# Altium schematic symbol library MS IMP Library.SchLib: 375 symbols (part 4 of 9)
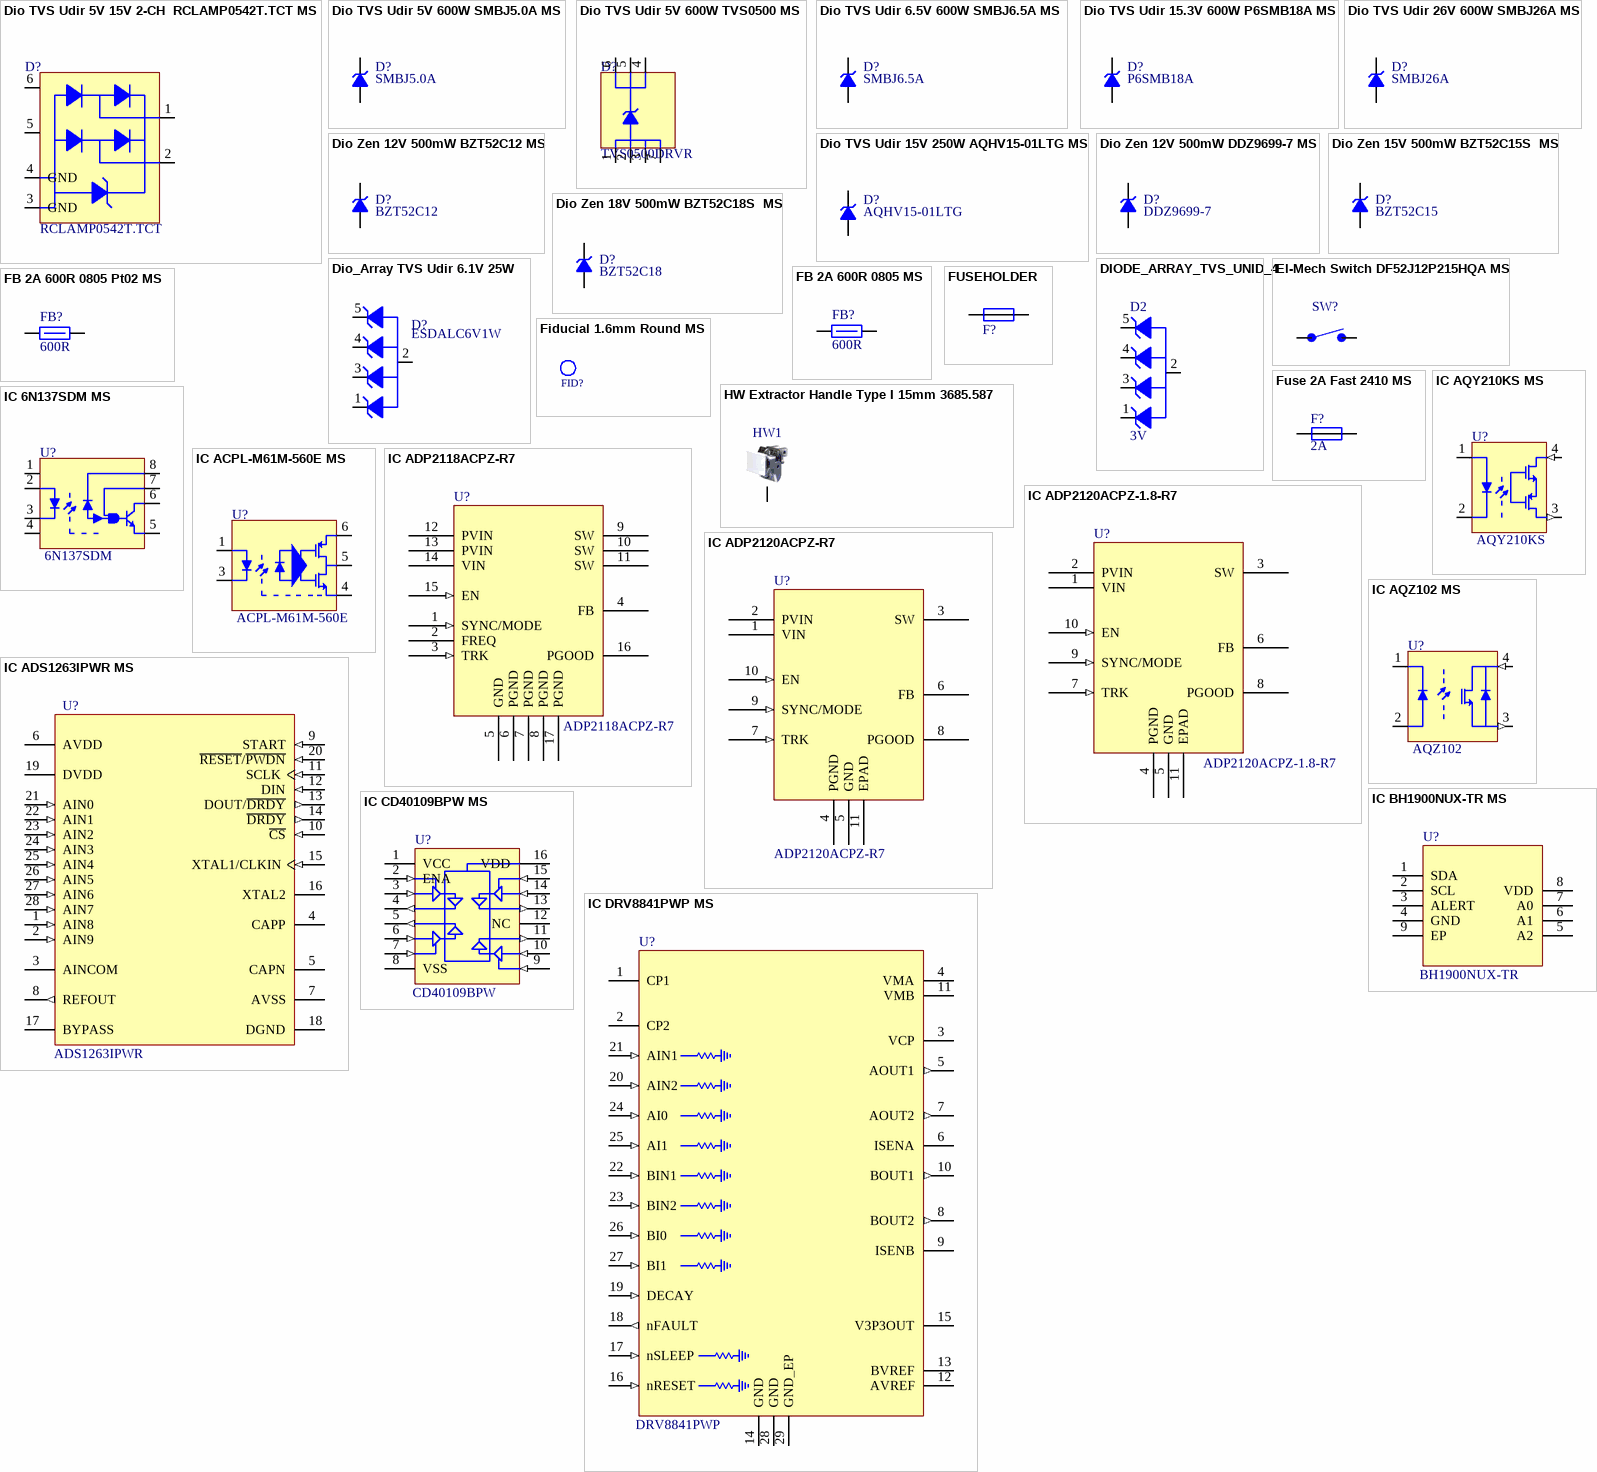
[diagram p25: symbols Dio TVS Udir 5V 15V 2-CH  RCLAMP0542T.TCT MS to IC DRV8841PWP MS]

## FB 2A 600R 0805 MS
designator FB?, comment Impedance @ 100MHz: 600R  (hidden comment: Ferrite Bead)
Ferrite Bead 2A 600R@100MHz 0805; Manufacturer: TDK Corporation; Manufacturer Part Number: MPZ2012S601AT000; DC Resistance: 0R1; Max Impedance Frequency: 110MHz; Tolerance: ±25%; Production status: Active; Distributor: Digi-Key; Distributor Part Number: 445-2206-1-ND; Last Revision Date: 01.10.2020.; Temperature Range: -55°C ~ +125°C; Mounting: SMD; ComponentLink1Description: Datasheet; ComponentLink1URL: https://product.tdk.com/en/system/files?file=dam/doc/product/emc/emc/beads/catalog/beads_commercial_power_mpz2012_en.pdf; ComponentLink2Description: Distributor; ComponentLink2URL: https://www.digikey.com/en/products/detail/tdk-corporation/MPZ2012S601AT000/765065?s=N4IgTCBcDaICxwKwFoxgAwDZkEZkDkARAAhAF0BfIA; ComponentLink3Description: Manufacturer; ComponentLink3URL: https://product.tdk.com/en/search/emc/emc/beads/info?part_no=MPZ2012S601AT000; Status: Not Checked; Rated Current: 2A; DB Parameter 1: 2A; DB Parameter 2: 600R; DB Parameter 3: 0R1
footprint 0805 FB 0.85mm MS (Resistor 0805 0.5mm)
pins: 1, 2

## FB 2A 600R 0805 Pt02 MS
designator FB?, comment Impedance @ 100MHz: 600R  (hidden comment: Ferrite Bead)
Ferrite Bead 2A 600R@100MHz 0805; Manufacturer: Murata Electronics; Manufacturer Part Number: BLM21SP601SH1D; Rated Current: 2.3A; DC Resistance: 0.06R; Max Impedance Frequency: 110MHz; Tolerance: ±25%; Production status: Active; Distributor: Digi-Key; Distributor Part Number: 490-18588-1-ND; Last Revision Date: 26.07.2021; Temperature Range: -55°C ~ +125°C; Mounting: SMD; ComponentLink1Description: Datasheet; ComponentLink1URL: https://www.murata.com/en-us/api/pdfdownloadapi?cate=luNoiseSupprFilteChipFerriBead&partno=BLM21SP601SH1%23; ComponentLink2Description: Distributor; ComponentLink2URL: https://www.digikey.com/en/products/detail/murata-electronics/BLM21SP601SH1D/10135379; ComponentLink3Description: Manufacturer; ComponentLink3URL: https://www.murata.com/en-us/products/productdetail?partno=BLM21SP601SH1%23; Status: Not Checked; DB Parameter 1: 2A; DB Parameter 2: 600R; DB Parameter 3: 0.06R
footprint 0805 FB 0.85mm MS (Resistor 0805 0.5mm)
pins: 1, 2

## Fiducial 1.6mm Round MS
designator FID?, comment Fiducial Mark Round 1.6mm  (value not drawn)  (no BOM)
Mounting: N/A; Package: N/A; Last Revision Date: 27.11.2020.
footprint FIDUCIAL_3.2_1.6

## Fuse 2A Fast 2410 MS
designator F?, comment Rated Current: 2A  (hidden comment: Fuse)
Fuse 2A Fast 2410; Manufacturer: Bel Fuse; Manufacturer Part Number: 0679H2000-05; DB Parameter 2: 72V; DB Parameter 3: 350V; Production Status: Active; Rated Voltage DC: 72VDC; Distributor: Mouser; Distributor Part Number: 530-0679H2000-05; Last Revision Date: 09.03.2022; Temperature Range: -55°C ~ +125°C; Mounting: SMD; ComponentLink1Description: Datasheet; ComponentLink1URL: https://eu.mouser.com/datasheet/2/643/ds-CP-0679h-series-1290853.pdf; ComponentLink2Description: Distributor; ComponentLink2URL: https://eu.mouser.com/ProductDetail/Bel-Fuse/0679H2000-05?qs=sGAEpiMZZMvShe%252BZiYheioeZGk4hIqz%2FpIM31NOOqC4%3D; ComponentLink3Description: Manufacturer; ComponentLink3URL: https://belfuse.com/product/part-details?partn=0679H2000-05; Status: Not Checked; Type: Fast; DB Parameter 1: 2A; Rated Voltage AC: 350V
footprint FUSC6125X279N
pins: 1, 2

## FUSEHOLDER
designator F?  (value not drawn)
FUSEHOLDER 10A 500V; Manufacturer: Schurter Inc.; Manufacturer Part Number: 0031.8221; VFB: 0.6V; Production Status: Active; Distributor: Digi-Key; Distributor Part Number: 486-1260-ND; Last Revision Date: 04.02.2021; Mounting: SMD; ComponentLink1Description: Datasheet; ComponentLink1URL: https://us.schurter.com/bundles/snceschurter/epim/_ProdPool_/newDS/en/typ_OGN-SMD.pdf; ComponentLink2Description: Distributor; ComponentLink2URL: https://www.digikey.com/en/products/detail/schurter-inc/0031-8221/669927; ComponentLink3Description: Manufacturer; ComponentLink3URL: https://www.schurter.com/en/datasheet/OGN-SMD#; Status: Not Checked; Rated Voltage: 500V; Rated Current: 10A; DB Parameter 1: 10A; DB Parameter 2: 500V
footprint FUSEHOLDER_00318221
pins: 1, 2

## HW Extractor Handle Type I 15mm 3685.587
designator HW1, comment Extractor Handle  (value not drawn)
HW Extractor Handle Type I 15mm 3685.587; Manufacturer: Wakefield-Vette; Distributor: Digi-Key; Distributor Part Number: 345-1342-ND; Manufacturer Part Number: 3685.587; Last Revision Date: 18.10.2020.; Temperature Range: N/A; Mounting: N/A; ComponentLink1Description: Datasheet; ComponentLink1URL: http://www.wakefield-vette.com/Portals/0/EPS%20data%20sheets/Components/Front%20Panels/extractor%20handle%20type%20I%20and%20II.pdf; ComponentLink2Description: Distributor; ComponentLink2URL: https://www.digikey.com/en/products/detail/wakefield-vette/3685587/5432427?s=N4IgTCBcDaIMwDYAcBWAdCpB2EBdAvkA; ComponentLink3Description: Manufacturer; ComponentLink3URL: http://www.wakefield-vette.com/products/electronic-packaging-systems/eps-components-accessories/front-panels-handles/extractors-ejectors-micro-switches/extractor-handle-type-i-and-type-ii.aspx; Status: Checked
footprint Extractor Handle 3685.587 - Lower MS (Extractor Handle 3685.587 - Lower)
footprint Extractor Handle 3685.587 - Upper MS (Extractor Handle 3685.587 - Upper)
pins: 0

## IC 6N137SDM MS
designator U?, comment 6N137SDM
OPTOISO 5KV 1CH OPEN COLL 8SMD; Manufacturer: ON Semiconductor; Data Rate: 10 Mbps; Isolation Voltage: 5000 Vrms; Production Status: Active; Distributor: 6N137SDMCT-ND; Distributor Part Number: 6N137SDM; Manufacturer Part Number: 6N137SDM; Last Revision Date: 02.07.2021; Temperature Range: -40°C ~ +100°C; Mounting: SMD; ComponentLink1Description: Datasheet; ComponentLink1URL: https://rocelec.widen.net/view/pdf/zs07d29frw/ONSM-S-A0003591003-1.pdf?t.download=true&u=5oefqw; ComponentLink2Description: Distributor; ComponentLink2URL: https://www.digikey.com/en/products/detail/on-semiconductor/6N137SDM/2444816; ComponentLink3Description: Manufacturer; ComponentLink3URL: https://www.onsemi.com/products/optoelectronics/high-performance-optocouplers/high-speed-logic-gate-optocouplers/6n137sdm; Status: Not Checked; DB Parameter 1: 6N137SDM; DB Parameter 2: 5000 Vrms; DB Parameter 3: 10 Mbps
footprint SOP254P1030X508-8N
pins: 1 NC, 2 ANODE, 3 CATHODE, 4 NC, 5 GND, 6 VO, 7 VE, 8 VCC

## IC ACPL-M61M-560E MS
designator U?, comment ACPL-M61M-560E
OPTOCOUPLER 10MBd; Manufacturer: Broadcom Limited; Data Rate: 10 Mbps; Isolation Voltage: 5000 Vrms; DB Parameter 2: 3750 Vrms; Production Status: Active; Supply Voltage: 2.5V ~ 3.3V; Distributor: Digi-Key; Distributor Part Number: 516-4288-1-ND; Manufacturer Part Number: ACPL-M61M-560E; Last Revision Date: 02.07.2021; Temperature Range: -40°C ~ +125°C; Mounting: SMD; ComponentLink1Description: Datasheet; ComponentLink1URL: https://docs.broadcom.com/doc/ACPL-M61M-DS; ComponentLink2Description: Distributor; ComponentLink2URL: https://www.digikey.com/en/products/detail/broadcom-limited/ACPL-M61M-560E/9693055?s=N4IgjCBcoCwwHFUBjKAzAhgGwM4FMAaEAeygG0QB2AZgDZqBOEAXSIAcAXKEAZQ4CcAlgDsA5iAC%2BRALQAmJCFSQBAV0IlyIAKwsJUkPMgVinYsmIq2WPP11A; ComponentLink3Description: Manufacturer; ComponentLink3URL: https://www.broadcom.com/products/optocouplers/industrial-plastic/digital-optocouplers/10mbd/acpl-m61m; Status: Not Checked; DB Parameter 1: ACPL-M61M-560E; DB Parameter 3: 10 Mbps
footprint ACPL-M61M SO5 MS
pins: 1 ANODE, 3 CATHODE, 4 GND, 5 VO, 6 VCC

## IC ADP2118ACPZ-R7
designator U?, comment ADP2118ACPZ-R7
IC BUCK SYNCHR 3A 16LFCSP; Manufacturer: Analog Devices Inc.; Input Voltage: 2.7V ~ 5.5V; Output Voltage: ADJ; VFB: 0.6V; Production Status: Active; Distributor: Digi-Key; Distributor Part Number: ADP2118ACPZ-R7CT-ND; Last Revision Date: 20.10.2020.; Temperature Range: -40°C ~ +125°C; Mounting: SMD; ComponentLink1Description: Datasheet; ComponentLink1URL: https://www.analog.com/media/en/technical-documentation/data-sheets/ADP2118.pdf; ComponentLink2Description: Distributor; ComponentLink2URL: https://www.digikey.com/en/products/detail/analog-devices-inc/ADP2118ACPZ-R7/2137520; ComponentLink3Description: Manufacturer; ComponentLink3URL: https://www.analog.com/en/products/adm1186.html; Status: Not Checked; DB Parameter 1: ADP2118ACPZ-R7; DB Parameter 2: 3A; DB Parameter 3: ADJ; Output Current: 3A; Isolation: N/A; Manufacturer Part Number: ADP2118ACPZ-R7
footprint LFCSP-16_4x4 MS
pins: 1 SYNC/MODE (in), 2 FREQ, 3 TRK (in), 4 FB, 5 GND (power), 6 PGND (power), 7 PGND (power), 8 PGND (power), 9 SW, 10 SW, 11 SW, 12 PVIN (power), 13 PVIN (power), 14 VIN (power), 15 EN (in), 16 PGOOD (oe), 17 PGND (power)

## IC ADP2120ACPZ-1.8-R7
designator U?, comment ADP2120ACPZ-1.8-R7
IC REG BUCK 1.8V 1.25A 10LFCSP; Manufacturer: Analog Devices Inc.; Input Voltage: 2.3V ~ 5.5V; VFB: 0.6V; Production Status: Active; Distributor: Digi-Key; Distributor Part Number: ADP2120ACPZ-1.8-R7CT-ND; Last Revision Date: 20.10.2020.; Temperature Range: -40°C ~ +125°C; Mounting: SMD; ComponentLink1Description: Datasheet; ComponentLink1URL: https://www.analog.com/media/en/technical-documentation/data-sheets/ADP2119_2120.pdf; ComponentLink2Description: Distributor; ComponentLink2URL: https://www.digikey.com/en/products/detail/ADP2120ACPZ-1.8-R7/ADP2120ACPZ-1.8-R7CT-ND/2436544; ComponentLink3Description: Manufacturer; ComponentLink3URL: https://www.analog.com/en/products/adp2120.html; Status: Not Checked; Output Voltage: 1.8V; DB Parameter 1: ADP2120ACPZ-1.8-R7; DB Parameter 2: 1.8V; DB Parameter 3: 1.25A; Output Current: 1.25A; Isolation: N/A; Manufacturer Part Number: ADP2120ACPZ-1.8-R7
footprint LFCSP-10_3x3 MS
pins: 1 VIN (power), 2 PVIN (power), 3 SW, 4 PGND (power), 5 GND (power), 6 FB, 7 TRK (in), 8 PGOOD (oe), 9 SYNC/MODE (in), 10 EN (in), 11 EPAD (power)

## IC ADP2120ACPZ-R7
designator U?, comment ADP2120ACPZ-R7
IC REG BUCK ADJ 1.25A 10LFCSP; Manufacturer: Analog Devices Inc.; Input Voltage: 2.3V ~ 5.5V; VFB: 0.6V; Production Status: Active; Distributor: Digi-Key; Distributor Part Number: ADP2120ACPZ-R7CT-ND; Last Revision Date: 28.10.2020; Temperature Range: -40°C ~ +125°C; Mounting: SMD; ComponentLink1Description: Datasheet; ComponentLink1URL: https://www.analog.com/media/en/technical-documentation/data-sheets/ADP2119_2120.pdf; ComponentLink2Description: Distributor; ComponentLink2URL: https://www.digikey.com/en/products/detail/analog-devices-inc/ADP2120ACPZ-R7/2606528; ComponentLink3Description: Manufacturer; ComponentLink3URL: https://www.analog.com/en/products/adp2120.html; Status: Not Checked; Output Voltage: ADJ; DB Parameter 1: ADP2120ACPZ-R7; DB Parameter 2: 1.25A; DB Parameter 3: ADJ; Output Current: 1.25A; Isolation: N/A; Manufacturer Part Number: ADP2120ACPZ-R7
footprint LFCSP-10_3x3 MS
pins: 1 VIN (power), 2 PVIN (power), 3 SW, 4 PGND (power), 5 GND (power), 6 FB, 7 TRK (in), 8 PGOOD (oe), 9 SYNC/MODE (in), 10 EN (in), 11 EPAD (power)

## IC ADS1263IPWR MS
designator U?, comment ADS1263IPWR
IC ADC 32BIT SIGMA-DELTA 28TSSOP; Manufacturer: Texas Instruments; Power Supply: 2.7V ~ 5.25V; Sampling Rate: 38 kHz; DB Parameter 2: 128Mb; DB Parameter 3: 133 MHz; Production Status: Active; No. of Channels: 10; Distributor: Digi-Key; Distributor Part Number: 296-42485-1-ND; Last Revision Date: 26.06.2022; Temperature Range: -40°C ~ +125°C; Mounting: SMD; ComponentLink1Description: Datasheet; ComponentLink1URL: https://www.ti.com/lit/ds/symlink/ads1263.pdf?HQS=dis-dk-null-digikeymode-dsf-pf-null-wwe&ts=1624720878208&ref_url=https%253A%252F%252Fwww.ti.com%252Fgeneral%252Fdocs%252Fsuppproductinfo.tsp%253FdistId%253D10%2526gotoUrl%253Dhttps%253A%252F%252Fwww.ti.com%252Flit%252Fgpn%252Fads1263; ComponentLink2Description: Distributor; ComponentLink2URL: https://www.digikey.com/en/products/detail/texas-instruments/ADS1263IPWR/5356687; ComponentLink3Description: Manufacturer; ComponentLink3URL: https://www.ti.com/store/ti/en/p/product/?p=ADS1263IPWR; Status: Not Checked; DB Parameter 1: ADS1263IPWR; Manufacturer Part Number: ADS1263IPWR
footprint SOP65P640X120-28N MS
pins: 1 AIN8 (in), 2 AIN9 (in), 3 AINCOM, 4 CAPP, 5 CAPN, 6 AVDD (power), 7 AVSS (power), 8 REFOUT (out), 9 START (in), 10 ~{CS} (in), 11 SCLK (in), 12 DIN (in), 13 DOUT/~{DRDY} (out), 14 ~{DRDY} (out), 15 XTAL1/CLKIN (in), 16 XTAL2, 17 BYPASS, 18 DGND (power), 19 DVDD (power), 20 ~{RESET}/~{PWDN} (in), 21 AIN0 (in), 22 AIN1 (in), 23 AIN2 (in), 24 AIN3 (in), 25 AIN4 (in), 26 AIN5 (in), 27 AIN6 (in), 28 AIN7 (in)

## IC AQY210KS MS
designator U?, comment AQY210KS
SSR RELAY SPST-NO 120MA 0-350V; Manufacturer: Panasonic Electric Works; Continuos Load Current: 0.12A; Isolation Voltage: 1500 Vrms; Production Status: Active; Supply Voltage: 0V ~ 350V; On-State Resistance: 35R; Distributor: Digi-Key; Distributor Part Number: 255-1432-5-ND; Manufacturer Part Number: AQY210KS; Last Revision Date: 07.07.2021; Temperature Range: -40°C ~ +125°C; Mounting: SMD; ComponentLink1Description: Datasheet; ComponentLink1URL: https://www3.panasonic.biz/ac/e_download/control/relay/photomos/catalog/semi_eng_gu1a_aqy21_ks.pdf; ComponentLink2Description: Distributor; ComponentLink2URL: https://www.digikey.com/en/products/detail/panasonic-electric-works/AQY210KS/513084; ComponentLink3Description: Manufacturer; ComponentLink3URL: https://www3.panasonic.biz/ac/e_download/control/relay/photomos/catalog/semi_eng_gu1a_aqy21_ks.pdf; Status: Not Checked; DB Parameter 1: AQY210KS; DB Parameter 2: 1500 Vrms; DB Parameter 3: 0.12A
footprint SOP-4
pins: 1 ANODE, 2 CATHODE, 3 Out (out), 4 In (in)

## IC AQZ102 MS
designator U?, comment AQZ102
SSR RELAY 4A 60V 4PIN SPST; Manufacturer: Panasonic Industrial Devices; Isolation Voltage: 2500 V; Production Status: Active; Supply Voltage: 0V ~ 60V; On-State Resistance: 0R09; Distributor: Mouser; Distributor Part Number: 769-AQZ102; Manufacturer Part Number: AQZ102; Last Revision Date: 07.03.2022; Temperature Range: -40°C ~ +85°C; Mounting: SMD; ComponentLink1Description: Datasheet; ComponentLink1URL: https://eu.mouser.com/datasheet/2/315/Panasonic_080420_AQZ-1889739.pdf; ComponentLink2Description: Distributor; ComponentLink2URL: https://eu.mouser.com/ProductDetail/Panasonic-Industrial-Devices/AQZ102?qs=tR16lFwwUU%2FVYpsj8M3w%252BA%3D%3D; ComponentLink3Description: Manufacturer; ComponentLink3URL: https://industry.panasonic.eu/components/relays/relays/photomos-relays/photomos-power-1-form/aqz102-aqz102; Status: Not Checked; Continuos Load Current: 4A; DB Parameter 1: AQZ102; DB Parameter 2: 2500 V; DB Parameter 3: 4A
footprint AQZ102 MS
pins: 1 ANODE, 2 CATHODE, 3 Out (out), 4 In (in)

## IC BH1900NUX-TR MS
designator U?, comment BH1900NUX-TR
SENSOR DGTL -20C-85C 8VSON; Manufacturer: ROHM Semiconductor; Power Supply: 2.7V ~ 3.6V; Production Status: Active; Distributor: Mouser; Distributor Part Number: 755-BH1900NUX; Last Revision Date: 13.12.2021; Temperature Range: -30°C ~ +95°C; Mounting: SMD; ComponentLink1Description: Datasheet; ComponentLink1URL: https://eu.mouser.com/datasheet/2/348/bh1900nux_e-1874465.pdf; ComponentLink2Description: Distributor; ComponentLink2URL: https://eu.mouser.com/ProductDetail/ROHM-Semiconductor/BH1900NUX-TR?qs=HXFqYaX1Q2wlYjOjhnBtEw%3D%3D; ComponentLink3Description: Manufacturer; ComponentLink3URL: https://www.rohm.com/site-search/-/rohmsearch/scope/site?searchKeyword=BH1900NUX-TR; Status: Not Checked; DB Parameter 1: BH1900NUX-TR; Manufacturer Part Number: BH1900NUX-TR
footprint SON50P300X200X60-9N-D ms
pins: 1 SDA, 2 SCL, 3 ALERT, 4 GND, 5 A2, 6 A1, 7 A0, 8 VDD, 9 EP

## IC CD40109BPW MS
designator U?, comment CD40109BPW
IC TRNSLTR UNIDIR 16TSSOP; Manufacturer: Texas Instruments; Power Supply: 3-18V/3-18V; DB Parameter 2: 3-18V; Production Status: Active; Distributor: Mouser; Distributor Part Number: 595-CD40109BPW; Last Revision Date: 03.12.2021; Temperature Range: -55°C ~ +125°C; Mounting: SMD; ComponentLink1Description: Datasheet; ComponentLink1URL: https://www.ti.com/lit/ds/symlink/cd40109b.pdf?HQS=dis-mous-null-mousermode-dsf-pf-null-wwe&ts=1638446916504&ref_url=https%253A%252F%252Fwww.mouser.fr%252F; ComponentLink2Description: Distributor; ComponentLink2URL: https://eu.mouser.com/ProductDetail/Texas-Instruments/CD40109BPW?qs=vmM6vcLFxxEiZzT4OByrSQ%3D%3D; ComponentLink3Description: Manufacturer; ComponentLink3URL: https://www.ti.com/store/ti/en/p/product/?p=CD40109BPW; Status: Not Checked; DB Parameter 1: CD40109BPW; DB Parameter 3: 3-18V; Manufacturer Part Number: CD40109BPW
footprint SOP65P640X120-16N_PW016A MS
pins: 1 VCC (power), 2 ENA (in), 3 A (in), 4 E (out), 5 F (out), 6 B (in), 7 ENB (in), 8 VSS (power), 9 ENC (in), 10 C (in), 11 G (out), 12 NC, 13 H (out), 14 D (in), 15 END (in), 16 VDD (power)

## IC DRV8841PWP MS
designator U?, comment DRV8841PWP
IC MTR DRVR BIPLR 8.2-45V 28SSOP; Manufacturer: Texas Instruments; Current - Max: 1.75A; Production Status: Active; Distributor: Digi-Key; Distributor Part Number: 296-47909-ND; Last Revision Date: 14.09.2021; Temperature Range: -40°C ~ +150°C; Mounting: SMD; ComponentLink1Description: Datasheet; ComponentLink1URL: https://www.ti.com/lit/ds/symlink/drv8841.pdf?HQS=dis-dk-null-digikeymode-dsf-pf-null-wwe&ts=1631537482068; ComponentLink2Description: Distributor; ComponentLink2URL: https://www.digikey.com/en/products/detail/texas-instruments/DRV8841PWP/13450819; ComponentLink3Description: Manufacturer; ComponentLink3URL: https://www.ti.com/store/ti/en/p/product/?p=DRV8841PWP; Status: Not Checked; Voltage - Load: 8.2-45V; DB Parameter 1: DRV8841PWP; DB Parameter 2: 8.2-45V; DB Parameter 3: 1.75A; Manufacturer Part Number: DRV8841PWP
footprint SOP65P640X120-29N MS
pins: 1 CP1, 2 CP2, 3 VCP, 4 VMA (power), 5 AOUT1 (out), 6 ISENA, 7 AOUT2 (out), 8 BOUT2 (out), 9 ISENB, 10 BOUT1 (out), 11 VMB (power), 12 AVREF, 13 BVREF, 14 GND (power), 15 V3P3OUT (power), 16 nRESET (in), 17 nSLEEP (in), 18 nFAULT (out), 19 DECAY (in), 20 AIN2 (in), 21 AIN1 (in), 22 BIN1 (in), 23 BIN2 (in), 24 AI0 (in), 25 AI1 (in), 26 BI0 (in), 27 BI1 (in), 28 GND (power), 29 GND_EP (power)

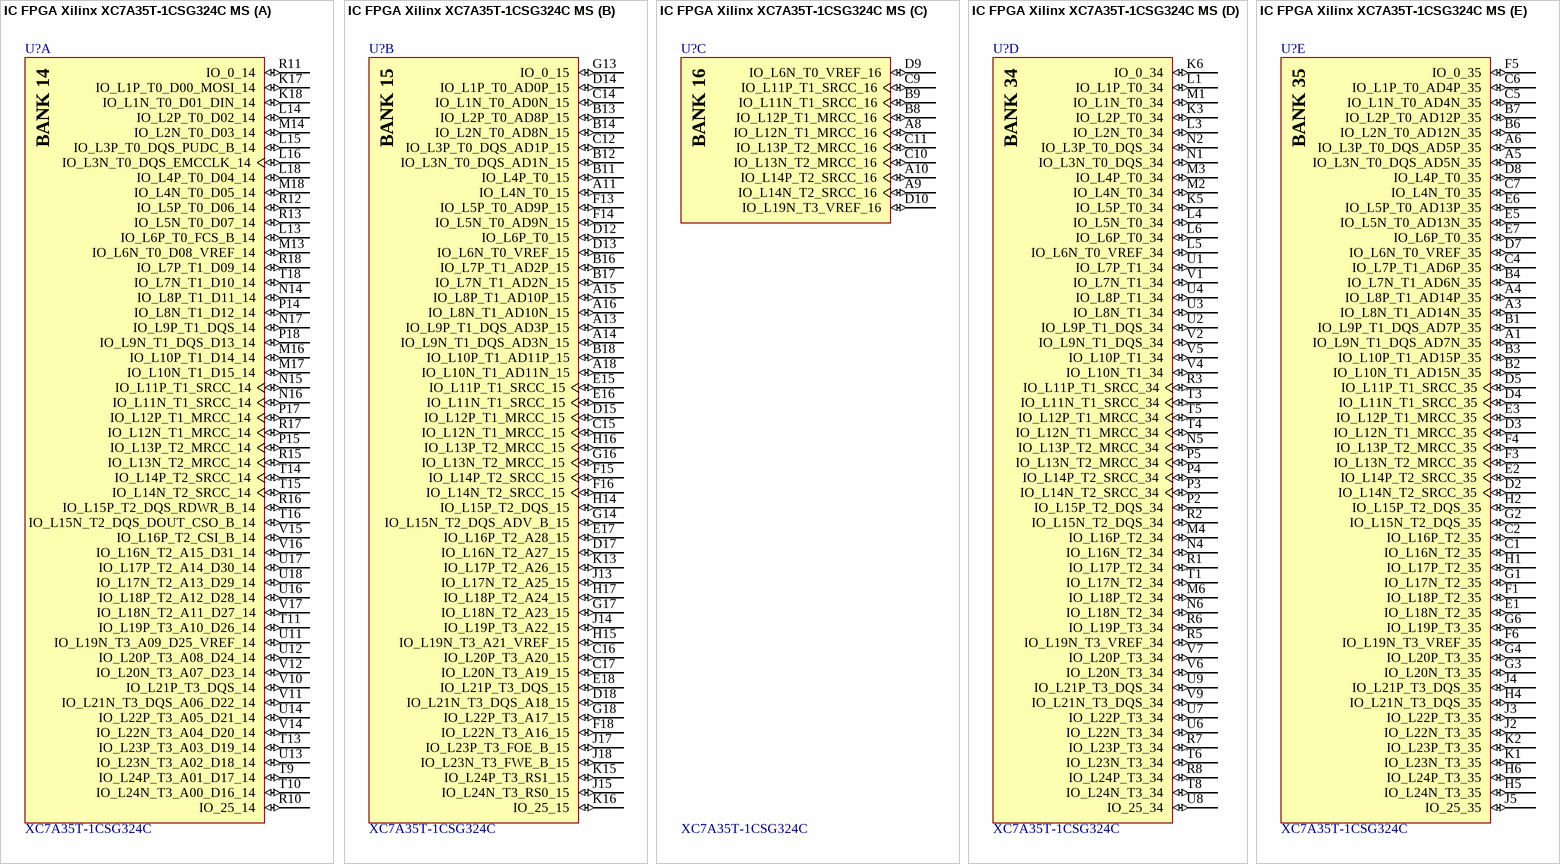
[diagram p7: symbol IC FPGA Xilinx XC7A35T-1CSG324C MS]

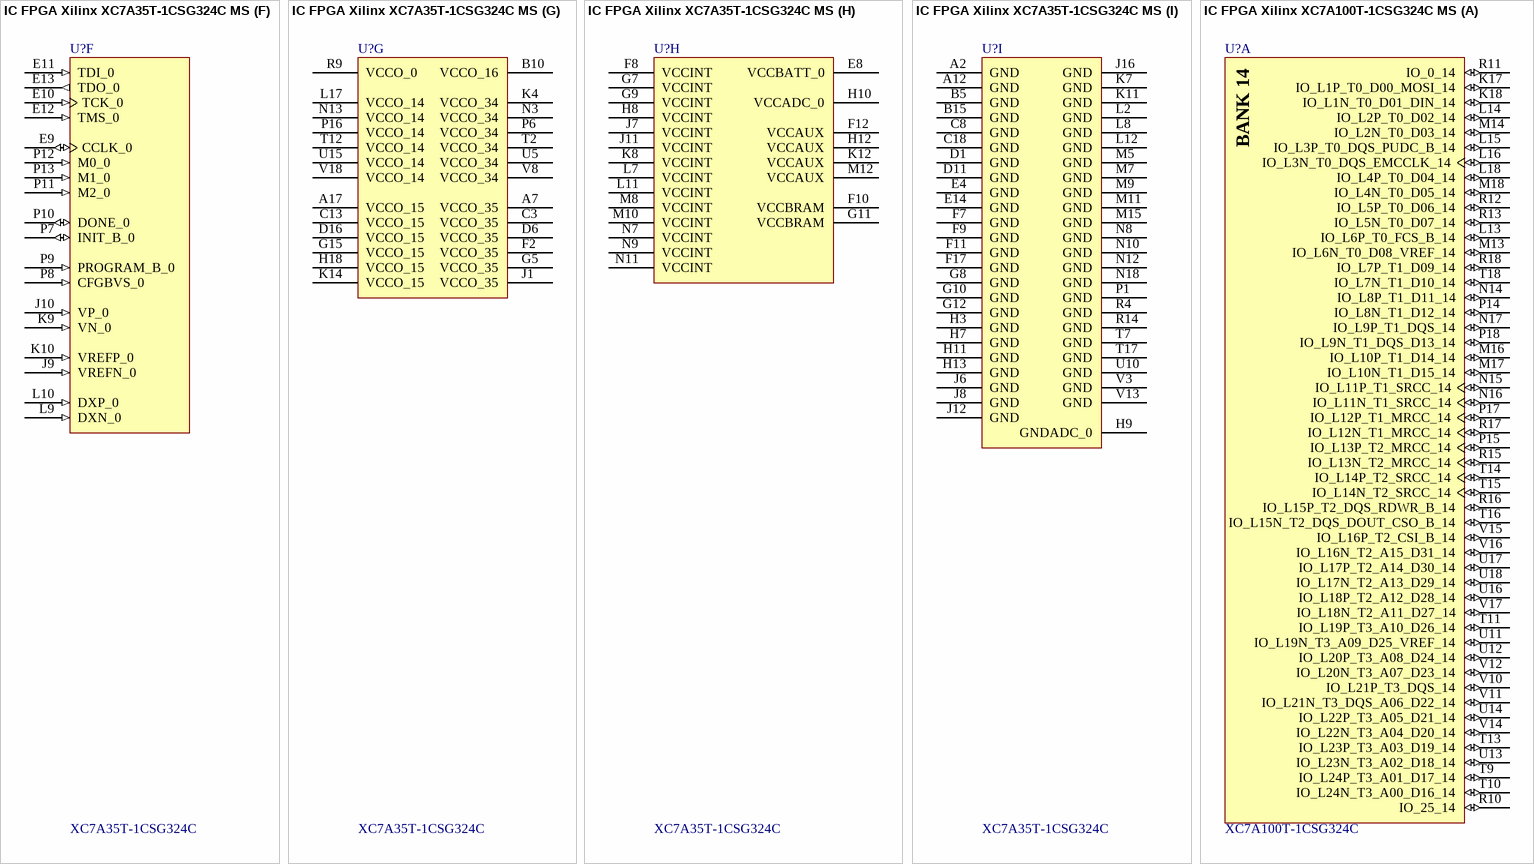
[diagram p8: symbols IC FPGA Xilinx XC7A35T-1CSG324C MS to IC FPGA Xilinx XC7A100T-1CSG324C MS]

## IC FPGA Xilinx XC7A35T-1CSG324C MS
designator U?, comment XC7A35T-1CSG324C
IC FPGA 210 I/O 324CSBGA; Manufacturer: Xilinx; Supply Voltage: 0.95V ~ 1.05V; Number of CLBs: 33280; Number of IO: 210; Production Status: Active; Distributor: Digi-Key; Distributor Part Number: 122-2079-ND; Manufacturer Part Number: XC7A35T-1CSG324C; Last Revision Date: 02.11.2020.; Temperature Range: 0°C ~ 85°C; Mounting: SMD; Status: Not Checked; DB Parameter 1: XC7A35T-1CSG324C; ComponentLink1Description: Datasheet; ComponentLink1URL: https://www.xilinx.com/support/documentation/data_sheets/ds180_7Series_Overview.pdf; ComponentLink2Description: Distributor; ComponentLink2URL: https://www.digikey.com/en/products/detail/xilinx-inc/XC7A35T-1CSG324C/5039490; ComponentLink3Description: Manufacturer; ComponentLink3URL: https://www.digikey.com/en/products/detail/xilinx-inc/XC7A35T-1CSG324C/5039490
footprint XILINX CSG324 0.4mm MS (BGA, 324-Balls, Body 15x15mm, Pitch 0.8mm)
part A pins: K17 IO_L1P_T0_D00_MOSI_14 (io), K18 IO_L1N_T0_D01_DIN_14 (io), L13 IO_L6P_T0_FCS_B_14 (io), L14 IO_L2P_T0_D02_14 (io), L15 IO_L3P_T0_DQS_PUDC_B_14 (io), L16 IO_L3N_T0_DQS_EMCCLK_14 (io), L18 IO_L4P_T0_D04_14 (io), M13 IO_L6N_T0_D08_VREF_14 (io), M14 IO_L2N_T0_D03_14 (io), M16 IO_L10P_T1_D14_14 (io), M17 IO_L10N_T1_D15_14 (io), M18 IO_L4N_T0_D05_14 (io), N14 IO_L8P_T1_D11_14 (io), N15 IO_L11P_T1_SRCC_14 (io), N16 IO_L11N_T1_SRCC_14 (io), N17 IO_L9P_T1_DQS_14 (io), P14 IO_L8N_T1_D12_14 (io), P15 IO_L13P_T2_MRCC_14 (io), P17 IO_L12P_T1_MRCC_14 (io), P18 IO_L9N_T1_DQS_D13_14 (io), R10 IO_25_14 (io), R11 IO_0_14 (io), R12 IO_L5P_T0_D06_14 (io), R13 IO_L5N_T0_D07_14 (io), R15 IO_L13N_T2_MRCC_14 (io), R16 IO_L15P_T2_DQS_RDWR_B_14 (io), R17 IO_L12N_T1_MRCC_14 (io), R18 IO_L7P_T1_D09_14 (io), T9 IO_L24P_T3_A01_D17_14 (io), T10 IO_L24N_T3_A00_D16_14 (io), T11 IO_L19P_T3_A10_D26_14 (io), T13 IO_L23P_T3_A03_D19_14 (io), T14 IO_L14P_T2_SRCC_14 (io), T15 IO_L14N_T2_SRCC_14 (io), T16 IO_L15N_T2_DQS_DOUT_CSO_B_14 (io), T18 IO_L7N_T1_D10_14 (io), U11 IO_L19N_T3_A09_D25_VREF_14 (io), U12 IO_L20P_T3_A08_D24_14 (io), U13 IO_L23N_T3_A02_D18_14 (io), U14 IO_L22P_T3_A05_D21_14 (io), U16 IO_L18P_T2_A12_D28_14 (io), U17 IO_L17P_T2_A14_D30_14 (io), U18 IO_L17N_T2_A13_D29_14 (io), V10 IO_L21P_T3_DQS_14 (io), V11 IO_L21N_T3_DQS_A06_D22_14 (io), V12 IO_L20N_T3_A07_D23_14 (io), V14 IO_L22N_T3_A04_D20_14 (io), V15 IO_L16P_T2_CSI_B_14 (io), V16 IO_L16N_T2_A15_D31_14 (io), V17 IO_L18N_T2_A11_D27_14 (io)
part B pins: A11 IO_L4N_T0_15 (io), A13 IO_L9P_T1_DQS_AD3P_15 (io), A14 IO_L9N_T1_DQS_AD3N_15 (io), A15 IO_L8P_T1_AD10P_15 (io), A16 IO_L8N_T1_AD10N_15 (io), A18 IO_L10N_T1_AD11N_15 (io), B11 IO_L4P_T0_15 (io), B12 IO_L3N_T0_DQS_AD1N_15 (io), B13 IO_L2P_T0_AD8P_15 (io), B14 IO_L2N_T0_AD8N_15 (io), B16 IO_L7P_T1_AD2P_15 (io), B17 IO_L7N_T1_AD2N_15 (io), B18 IO_L10P_T1_AD11P_15 (io), C12 IO_L3P_T0_DQS_AD1P_15 (io), C14 IO_L1N_T0_AD0N_15 (io), C15 IO_L12N_T1_MRCC_15 (io), C16 IO_L20P_T3_A20_15 (io), C17 IO_L20N_T3_A19_15 (io), D12 IO_L6P_T0_15 (io), D13 IO_L6N_T0_VREF_15 (io), D14 IO_L1P_T0_AD0P_15 (io), D15 IO_L12P_T1_MRCC_15 (io), D17 IO_L16N_T2_A27_15 (io), D18 IO_L21N_T3_DQS_A18_15 (io), E15 IO_L11P_T1_SRCC_15 (io), E16 IO_L11N_T1_SRCC_15 (io), E17 IO_L16P_T2_A28_15 (io), E18 IO_L21P_T3_DQS_15 (io), F13 IO_L5P_T0_AD9P_15 (io), F14 IO_L5N_T0_AD9N_15 (io), F15 IO_L14P_T2_SRCC_15 (io), F16 IO_L14N_T2_SRCC_15 (io), F18 IO_L22N_T3_A16_15 (io), G13 IO_0_15 (io), G14 IO_L15N_T2_DQS_ADV_B_15 (io), G16 IO_L13N_T2_MRCC_15 (io), G17 IO_L18N_T2_A23_15 (io), G18 IO_L22P_T3_A17_15 (io), H14 IO_L15P_T2_DQS_15 (io), H15 IO_L19N_T3_A21_VREF_15 (io), H16 IO_L13P_T2_MRCC_15 (io), H17 IO_L18P_T2_A24_15 (io), J13 IO_L17N_T2_A25_15 (io), J14 IO_L19P_T3_A22_15 (io), J15 IO_L24N_T3_RS0_15 (io), J17 IO_L23P_T3_FOE_B_15 (io), J18 IO_L23N_T3_FWE_B_15 (io), K13 IO_L17P_T2_A26_15 (io), K15 IO_L24P_T3_RS1_15 (io), K16 IO_25_15 (io)
part C pins: A8 IO_L12N_T1_MRCC_16 (io), A9 IO_L14N_T2_SRCC_16 (io), A10 IO_L14P_T2_SRCC_16 (io), B8 IO_L12P_T1_MRCC_16 (io), B9 IO_L11N_T1_SRCC_16 (io), C9 IO_L11P_T1_SRCC_16 (io), C10 IO_L13N_T2_MRCC_16 (io), C11 IO_L13P_T2_MRCC_16 (io), D9 IO_L6N_T0_VREF_16 (io), D10 IO_L19N_T3_VREF_16 (io)
part D pins: K3 IO_L2P_T0_34 (io), K5 IO_L5P_T0_34 (io), K6 IO_0_34 (io), L1 IO_L1P_T0_34 (io), L3 IO_L2N_T0_34 (io), L4 IO_L5N_T0_34 (io), L5 IO_L6N_T0_VREF_34 (io), L6 IO_L6P_T0_34 (io), M1 IO_L1N_T0_34 (io), M2 IO_L4N_T0_34 (io), M3 IO_L4P_T0_34 (io), M4 IO_L16P_T2_34 (io), M6 IO_L18P_T2_34 (io), N1 IO_L3N_T0_DQS_34 (io), N2 IO_L3P_T0_DQS_34 (io), N4 IO_L16N_T2_34 (io), N5 IO_L13P_T2_MRCC_34 (io), N6 IO_L18N_T2_34 (io), P2 IO_L15P_T2_DQS_34 (io), P3 IO_L14N_T2_SRCC_34 (io), P4 IO_L14P_T2_SRCC_34 (io), P5 IO_L13N_T2_MRCC_34 (io), R1 IO_L17P_T2_34 (io), R2 IO_L15N_T2_DQS_34 (io), R3 IO_L11P_T1_SRCC_34 (io), R5 IO_L19N_T3_VREF_34 (io), R6 IO_L19P_T3_34 (io), R7 IO_L23P_T3_34 (io), R8 IO_L24P_T3_34 (io), T1 IO_L17N_T2_34 (io), T3 IO_L11N_T1_SRCC_34 (io), T4 IO_L12N_T1_MRCC_34 (io), T5 IO_L12P_T1_MRCC_34 (io), T6 IO_L23N_T3_34 (io), T8 IO_L24N_T3_34 (io), U1 IO_L7P_T1_34 (io), U2 IO_L9P_T1_DQS_34 (io), U3 IO_L8N_T1_34 (io), U4 IO_L8P_T1_34 (io), U6 IO_L22N_T3_34 (io), U7 IO_L22P_T3_34 (io), U8 IO_25_34 (io), U9 IO_L21P_T3_DQS_34 (io), V1 IO_L7N_T1_34 (io), V2 IO_L9N_T1_DQS_34 (io), V4 IO_L10N_T1_34 (io), V5 IO_L10P_T1_34 (io), V6 IO_L20N_T3_34 (io), V7 IO_L20P_T3_34 (io), V9 IO_L21N_T3_DQS_34 (io)
part E pins: A1 IO_L9N_T1_DQS_AD7N_35 (io), A3 IO_L8N_T1_AD14N_35 (io), A4 IO_L8P_T1_AD14P_35 (io), A5 IO_L3N_T0_DQS_AD5N_35 (io), A6 IO_L3P_T0_DQS_AD5P_35 (io), B1 IO_L9P_T1_DQS_AD7P_35 (io), B2 IO_L10N_T1_AD15N_35 (io), B3 IO_L10P_T1_AD15P_35 (io), B4 IO_L7N_T1_AD6N_35 (io), B6 IO_L2N_T0_AD12N_35 (io), B7 IO_L2P_T0_AD12P_35 (io), C1 IO_L16N_T2_35 (io), C2 IO_L16P_T2_35 (io), C4 IO_L7P_T1_AD6P_35 (io), C5 IO_L1N_T0_AD4N_35 (io), C6 IO_L1P_T0_AD4P_35 (io), C7 IO_L4N_T0_35 (io), D2 IO_L14N_T2_SRCC_35 (io), D3 IO_L12N_T1_MRCC_35 (io), D4 IO_L11N_T1_SRCC_35 (io), D5 IO_L11P_T1_SRCC_35 (io), D7 IO_L6N_T0_VREF_35 (io), D8 IO_L4P_T0_35 (io), E1 IO_L18N_T2_35 (io), E2 IO_L14P_T2_SRCC_35 (io), E3 IO_L12P_T1_MRCC_35 (io), E5 IO_L5N_T0_AD13N_35 (io), E6 IO_L5P_T0_AD13P_35 (io), E7 IO_L6P_T0_35 (io), F1 IO_L18P_T2_35 (io), F3 IO_L13N_T2_MRCC_35 (io), F4 IO_L13P_T2_MRCC_35 (io), F5 IO_0_35 (io), F6 IO_L19N_T3_VREF_35 (io), G1 IO_L17N_T2_35 (io), G2 IO_L15N_T2_DQS_35 (io), G3 IO_L20N_T3_35 (io), G4 IO_L20P_T3_35 (io), G6 IO_L19P_T3_35 (io), H1 IO_L17P_T2_35 (io), H2 IO_L15P_T2_DQS_35 (io), H4 IO_L21N_T3_DQS_35 (io), H5 IO_L24N_T3_35 (io), H6 IO_L24P_T3_35 (io), J2 IO_L22N_T3_35 (io), J3 IO_L22P_T3_35 (io), J4 IO_L21P_T3_DQS_35 (io), J5 IO_25_35 (io), K1 IO_L23N_T3_35 (io), K2 IO_L23P_T3_35 (io)
part F pins: E9 CCLK_0 (io), E10 TCK_0 (in), E11 TDI_0 (in), E12 TMS_0 (in), E13 TDO_0 (out), J9 VREFN_0 (in), J10 VP_0 (in), K9 VN_0 (in), K10 VREFP_0 (in), L9 DXN_0 (in), L10 DXP_0 (in), P7 INIT_B_0 (io), P8 CFGBVS_0 (in), P9 PROGRAM_B_0 (in), P10 DONE_0 (io), P11 M2_0 (in), P12 M0_0 (in), P13 M1_0 (in)
part G pins: A7 VCCO_35, A17 VCCO_15, B10 VCCO_16, C3 VCCO_35, C13 VCCO_15, D6 VCCO_35, D16 VCCO_15, F2 VCCO_35, G5 VCCO_35, G15 VCCO_15, H18 VCCO_15, J1 VCCO_35, K4 VCCO_34, K14 VCCO_15, L17 VCCO_14, N3 VCCO_34, N13 VCCO_14, P6 VCCO_34, P16 VCCO_14, R9 VCCO_0, T2 VCCO_34, T12 VCCO_14, U5 VCCO_34, U15 VCCO_14, V8 VCCO_34, V18 VCCO_14
part H pins: E8 VCCBATT_0, F8 VCCINT, F10 VCCBRAM, F12 VCCAUX, G7 VCCINT, G9 VCCINT, G11 VCCBRAM, H8 VCCINT, H10 VCCADC_0, H12 VCCAUX, J7 VCCINT, J11 VCCINT, K8 VCCINT, K12 VCCAUX, L7 VCCINT, L11 VCCINT, M8 VCCINT, M10 VCCINT, M12 VCCAUX, N7 VCCINT, N9 VCCINT, N11 VCCINT
part I pins: A2 GND, A12 GND, B5 GND, B15 GND, C8 GND, C18 GND, D1 GND, D11 GND, E4 GND, E14 GND, F7 GND, F9 GND, F11 GND, F17 GND, G8 GND, G10 GND, G12 GND, H3 GND, H7 GND, H9 GNDADC_0, H11 GND, H13 GND, J6 GND, J8 GND, J12 GND, J16 GND, K7 GND, K11 GND, L2 GND, L8 GND, L12 GND, M5 GND, M7 GND, M9 GND, M11 GND, M15 GND, N8 GND, N10 GND, N12 GND, N18 GND, P1 GND, R4 GND, R14 GND, T7 GND, T17 GND, U10 GND, V3 GND, V13 GND
part A text: BANK 14
part B text: BANK 15
part C text: BANK 16
part D text: BANK 34
part E text: BANK 35

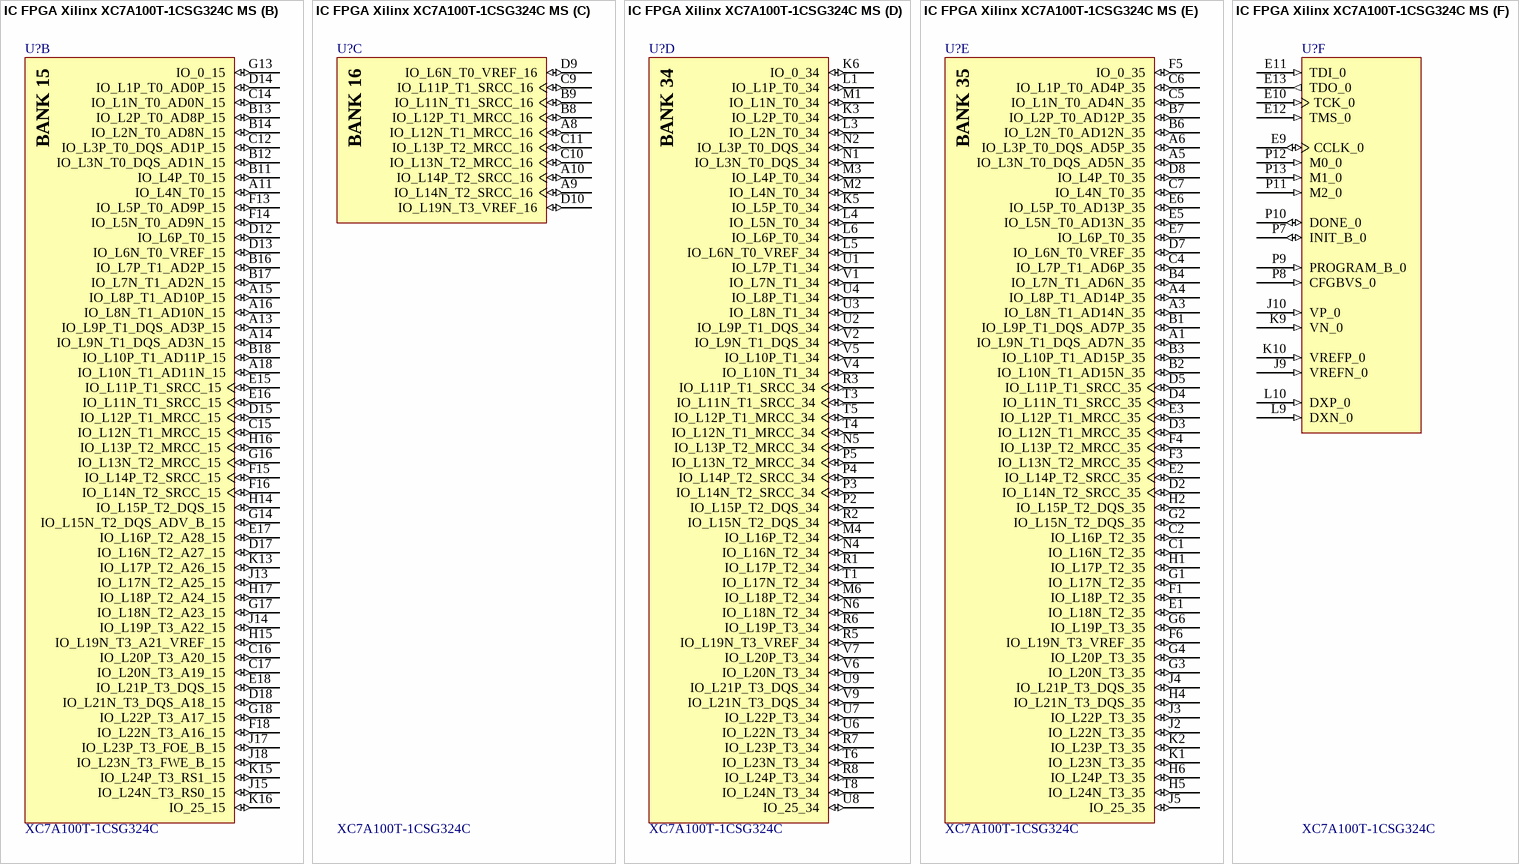
[diagram p9: symbol IC FPGA Xilinx XC7A100T-1CSG324C MS]

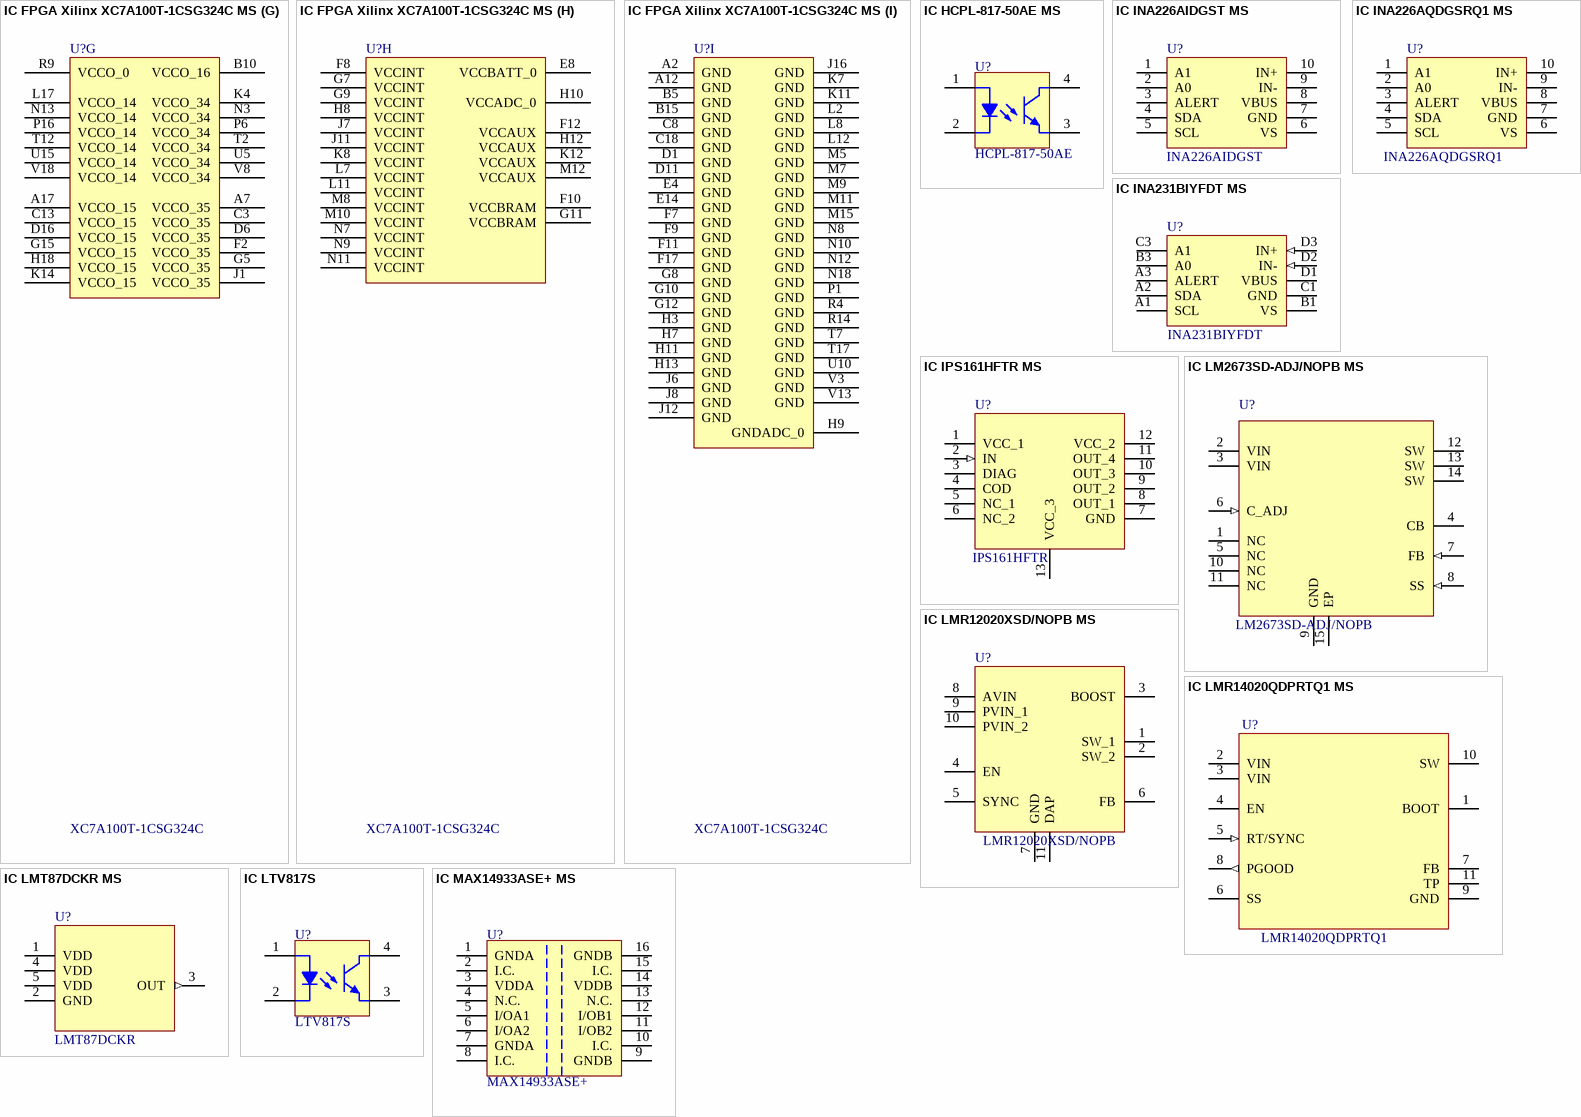
[diagram p10: symbols IC FPGA Xilinx XC7A100T-1CSG324C MS to IC MAX14933ASE+ MS]

## IC FPGA Xilinx XC7A100T-1CSG324C MS
designator U?, comment XC7A100T-1CSG324C
IC FPGA 210 I/O 324CSBGA; Manufacturer: Xilinx; Supply Voltage: 0.95V ~ 1.05V; Number of CLBs: 101,440; Number of IO: 210; Production Status: Active; Distributor: Digi-Key; Distributor Part Number: 122-1886-ND; Manufacturer Part Number: XC7A100T-1CSG324C; Last Revision Date: 02.11.2020.; Temperature Range: 0°C ~ 85°C; Mounting: SMD; Status: Not Checked; DB Parameter 1: XC7A100T-1CSG324C; ComponentLink1Description: Datasheet; ComponentLink1URL: https://www.xilinx.com/support/documentation/data_sheets/ds180_7Series_Overview.pdf; ComponentLink2Description: Distributor; ComponentLink2URL: https://www.digikey.com/en/products/detail/xilinx-inc/XC7A100T-1CSG324C/3925803; ComponentLink3Description: Manufacturer; ComponentLink3URL: https://www.digikey.com/en/products/detail/xilinx-inc/XC7A35T-1CSG324C/5039490
footprint XILINX CSG324 0.4mm MS (BGA, 324-Balls, Body 15x15mm, Pitch 0.8mm)
part A pins: K17 IO_L1P_T0_D00_MOSI_14 (io), K18 IO_L1N_T0_D01_DIN_14 (io), L13 IO_L6P_T0_FCS_B_14 (io), L14 IO_L2P_T0_D02_14 (io), L15 IO_L3P_T0_DQS_PUDC_B_14 (io), L16 IO_L3N_T0_DQS_EMCCLK_14 (io), L18 IO_L4P_T0_D04_14 (io), M13 IO_L6N_T0_D08_VREF_14 (io), M14 IO_L2N_T0_D03_14 (io), M16 IO_L10P_T1_D14_14 (io), M17 IO_L10N_T1_D15_14 (io), M18 IO_L4N_T0_D05_14 (io), N14 IO_L8P_T1_D11_14 (io), N15 IO_L11P_T1_SRCC_14 (io), N16 IO_L11N_T1_SRCC_14 (io), N17 IO_L9P_T1_DQS_14 (io), P14 IO_L8N_T1_D12_14 (io), P15 IO_L13P_T2_MRCC_14 (io), P17 IO_L12P_T1_MRCC_14 (io), P18 IO_L9N_T1_DQS_D13_14 (io), R10 IO_25_14 (io), R11 IO_0_14 (io), R12 IO_L5P_T0_D06_14 (io), R13 IO_L5N_T0_D07_14 (io), R15 IO_L13N_T2_MRCC_14 (io), R16 IO_L15P_T2_DQS_RDWR_B_14 (io), R17 IO_L12N_T1_MRCC_14 (io), R18 IO_L7P_T1_D09_14 (io), T9 IO_L24P_T3_A01_D17_14 (io), T10 IO_L24N_T3_A00_D16_14 (io), T11 IO_L19P_T3_A10_D26_14 (io), T13 IO_L23P_T3_A03_D19_14 (io), T14 IO_L14P_T2_SRCC_14 (io), T15 IO_L14N_T2_SRCC_14 (io), T16 IO_L15N_T2_DQS_DOUT_CSO_B_14 (io), T18 IO_L7N_T1_D10_14 (io), U11 IO_L19N_T3_A09_D25_VREF_14 (io), U12 IO_L20P_T3_A08_D24_14 (io), U13 IO_L23N_T3_A02_D18_14 (io), U14 IO_L22P_T3_A05_D21_14 (io), U16 IO_L18P_T2_A12_D28_14 (io), U17 IO_L17P_T2_A14_D30_14 (io), U18 IO_L17N_T2_A13_D29_14 (io), V10 IO_L21P_T3_DQS_14 (io), V11 IO_L21N_T3_DQS_A06_D22_14 (io), V12 IO_L20N_T3_A07_D23_14 (io), V14 IO_L22N_T3_A04_D20_14 (io), V15 IO_L16P_T2_CSI_B_14 (io), V16 IO_L16N_T2_A15_D31_14 (io), V17 IO_L18N_T2_A11_D27_14 (io)
part B pins: A11 IO_L4N_T0_15 (io), A13 IO_L9P_T1_DQS_AD3P_15 (io), A14 IO_L9N_T1_DQS_AD3N_15 (io), A15 IO_L8P_T1_AD10P_15 (io), A16 IO_L8N_T1_AD10N_15 (io), A18 IO_L10N_T1_AD11N_15 (io), B11 IO_L4P_T0_15 (io), B12 IO_L3N_T0_DQS_AD1N_15 (io), B13 IO_L2P_T0_AD8P_15 (io), B14 IO_L2N_T0_AD8N_15 (io), B16 IO_L7P_T1_AD2P_15 (io), B17 IO_L7N_T1_AD2N_15 (io), B18 IO_L10P_T1_AD11P_15 (io), C12 IO_L3P_T0_DQS_AD1P_15 (io), C14 IO_L1N_T0_AD0N_15 (io), C15 IO_L12N_T1_MRCC_15 (io), C16 IO_L20P_T3_A20_15 (io), C17 IO_L20N_T3_A19_15 (io), D12 IO_L6P_T0_15 (io), D13 IO_L6N_T0_VREF_15 (io), D14 IO_L1P_T0_AD0P_15 (io), D15 IO_L12P_T1_MRCC_15 (io), D17 IO_L16N_T2_A27_15 (io), D18 IO_L21N_T3_DQS_A18_15 (io), E15 IO_L11P_T1_SRCC_15 (io), E16 IO_L11N_T1_SRCC_15 (io), E17 IO_L16P_T2_A28_15 (io), E18 IO_L21P_T3_DQS_15 (io), F13 IO_L5P_T0_AD9P_15 (io), F14 IO_L5N_T0_AD9N_15 (io), F15 IO_L14P_T2_SRCC_15 (io), F16 IO_L14N_T2_SRCC_15 (io), F18 IO_L22N_T3_A16_15 (io), G13 IO_0_15 (io), G14 IO_L15N_T2_DQS_ADV_B_15 (io), G16 IO_L13N_T2_MRCC_15 (io), G17 IO_L18N_T2_A23_15 (io), G18 IO_L22P_T3_A17_15 (io), H14 IO_L15P_T2_DQS_15 (io), H15 IO_L19N_T3_A21_VREF_15 (io), H16 IO_L13P_T2_MRCC_15 (io), H17 IO_L18P_T2_A24_15 (io), J13 IO_L17N_T2_A25_15 (io), J14 IO_L19P_T3_A22_15 (io), J15 IO_L24N_T3_RS0_15 (io), J17 IO_L23P_T3_FOE_B_15 (io), J18 IO_L23N_T3_FWE_B_15 (io), K13 IO_L17P_T2_A26_15 (io), K15 IO_L24P_T3_RS1_15 (io), K16 IO_25_15 (io)
part C pins: A8 IO_L12N_T1_MRCC_16 (io), A9 IO_L14N_T2_SRCC_16 (io), A10 IO_L14P_T2_SRCC_16 (io), B8 IO_L12P_T1_MRCC_16 (io), B9 IO_L11N_T1_SRCC_16 (io), C9 IO_L11P_T1_SRCC_16 (io), C10 IO_L13N_T2_MRCC_16 (io), C11 IO_L13P_T2_MRCC_16 (io), D9 IO_L6N_T0_VREF_16 (io), D10 IO_L19N_T3_VREF_16 (io)
part D pins: K3 IO_L2P_T0_34 (io), K5 IO_L5P_T0_34 (io), K6 IO_0_34 (io), L1 IO_L1P_T0_34 (io), L3 IO_L2N_T0_34 (io), L4 IO_L5N_T0_34 (io), L5 IO_L6N_T0_VREF_34 (io), L6 IO_L6P_T0_34 (io), M1 IO_L1N_T0_34 (io), M2 IO_L4N_T0_34 (io), M3 IO_L4P_T0_34 (io), M4 IO_L16P_T2_34 (io), M6 IO_L18P_T2_34 (io), N1 IO_L3N_T0_DQS_34 (io), N2 IO_L3P_T0_DQS_34 (io), N4 IO_L16N_T2_34 (io), N5 IO_L13P_T2_MRCC_34 (io), N6 IO_L18N_T2_34 (io), P2 IO_L15P_T2_DQS_34 (io), P3 IO_L14N_T2_SRCC_34 (io), P4 IO_L14P_T2_SRCC_34 (io), P5 IO_L13N_T2_MRCC_34 (io), R1 IO_L17P_T2_34 (io), R2 IO_L15N_T2_DQS_34 (io), R3 IO_L11P_T1_SRCC_34 (io), R5 IO_L19N_T3_VREF_34 (io), R6 IO_L19P_T3_34 (io), R7 IO_L23P_T3_34 (io), R8 IO_L24P_T3_34 (io), T1 IO_L17N_T2_34 (io), T3 IO_L11N_T1_SRCC_34 (io), T4 IO_L12N_T1_MRCC_34 (io), T5 IO_L12P_T1_MRCC_34 (io), T6 IO_L23N_T3_34 (io), T8 IO_L24N_T3_34 (io), U1 IO_L7P_T1_34 (io), U2 IO_L9P_T1_DQS_34 (io), U3 IO_L8N_T1_34 (io), U4 IO_L8P_T1_34 (io), U6 IO_L22N_T3_34 (io), U7 IO_L22P_T3_34 (io), U8 IO_25_34 (io), U9 IO_L21P_T3_DQS_34 (io), V1 IO_L7N_T1_34 (io), V2 IO_L9N_T1_DQS_34 (io), V4 IO_L10N_T1_34 (io), V5 IO_L10P_T1_34 (io), V6 IO_L20N_T3_34 (io), V7 IO_L20P_T3_34 (io), V9 IO_L21N_T3_DQS_34 (io)
part E pins: A1 IO_L9N_T1_DQS_AD7N_35 (io), A3 IO_L8N_T1_AD14N_35 (io), A4 IO_L8P_T1_AD14P_35 (io), A5 IO_L3N_T0_DQS_AD5N_35 (io), A6 IO_L3P_T0_DQS_AD5P_35 (io), B1 IO_L9P_T1_DQS_AD7P_35 (io), B2 IO_L10N_T1_AD15N_35 (io), B3 IO_L10P_T1_AD15P_35 (io), B4 IO_L7N_T1_AD6N_35 (io), B6 IO_L2N_T0_AD12N_35 (io), B7 IO_L2P_T0_AD12P_35 (io), C1 IO_L16N_T2_35 (io), C2 IO_L16P_T2_35 (io), C4 IO_L7P_T1_AD6P_35 (io), C5 IO_L1N_T0_AD4N_35 (io), C6 IO_L1P_T0_AD4P_35 (io), C7 IO_L4N_T0_35 (io), D2 IO_L14N_T2_SRCC_35 (io), D3 IO_L12N_T1_MRCC_35 (io), D4 IO_L11N_T1_SRCC_35 (io), D5 IO_L11P_T1_SRCC_35 (io), D7 IO_L6N_T0_VREF_35 (io), D8 IO_L4P_T0_35 (io), E1 IO_L18N_T2_35 (io), E2 IO_L14P_T2_SRCC_35 (io), E3 IO_L12P_T1_MRCC_35 (io), E5 IO_L5N_T0_AD13N_35 (io), E6 IO_L5P_T0_AD13P_35 (io), E7 IO_L6P_T0_35 (io), F1 IO_L18P_T2_35 (io), F3 IO_L13N_T2_MRCC_35 (io), F4 IO_L13P_T2_MRCC_35 (io), F5 IO_0_35 (io), F6 IO_L19N_T3_VREF_35 (io), G1 IO_L17N_T2_35 (io), G2 IO_L15N_T2_DQS_35 (io), G3 IO_L20N_T3_35 (io), G4 IO_L20P_T3_35 (io), G6 IO_L19P_T3_35 (io), H1 IO_L17P_T2_35 (io), H2 IO_L15P_T2_DQS_35 (io), H4 IO_L21N_T3_DQS_35 (io), H5 IO_L24N_T3_35 (io), H6 IO_L24P_T3_35 (io), J2 IO_L22N_T3_35 (io), J3 IO_L22P_T3_35 (io), J4 IO_L21P_T3_DQS_35 (io), J5 IO_25_35 (io), K1 IO_L23N_T3_35 (io), K2 IO_L23P_T3_35 (io)
part F pins: E9 CCLK_0 (io), E10 TCK_0 (in), E11 TDI_0 (in), E12 TMS_0 (in), E13 TDO_0 (out), J9 VREFN_0 (in), J10 VP_0 (in), K9 VN_0 (in), K10 VREFP_0 (in), L9 DXN_0 (in), L10 DXP_0 (in), P7 INIT_B_0 (io), P8 CFGBVS_0 (in), P9 PROGRAM_B_0 (in), P10 DONE_0 (io), P11 M2_0 (in), P12 M0_0 (in), P13 M1_0 (in)
part G pins: A7 VCCO_35, A17 VCCO_15, B10 VCCO_16, C3 VCCO_35, C13 VCCO_15, D6 VCCO_35, D16 VCCO_15, F2 VCCO_35, G5 VCCO_35, G15 VCCO_15, H18 VCCO_15, J1 VCCO_35, K4 VCCO_34, K14 VCCO_15, L17 VCCO_14, N3 VCCO_34, N13 VCCO_14, P6 VCCO_34, P16 VCCO_14, R9 VCCO_0, T2 VCCO_34, T12 VCCO_14, U5 VCCO_34, U15 VCCO_14, V8 VCCO_34, V18 VCCO_14
part H pins: E8 VCCBATT_0, F8 VCCINT, F10 VCCBRAM, F12 VCCAUX, G7 VCCINT, G9 VCCINT, G11 VCCBRAM, H8 VCCINT, H10 VCCADC_0, H12 VCCAUX, J7 VCCINT, J11 VCCINT, K8 VCCINT, K12 VCCAUX, L7 VCCINT, L11 VCCINT, M8 VCCINT, M10 VCCINT, M12 VCCAUX, N7 VCCINT, N9 VCCINT, N11 VCCINT
part I pins: A2 GND, A12 GND, B5 GND, B15 GND, C8 GND, C18 GND, D1 GND, D11 GND, E4 GND, E14 GND, F7 GND, F9 GND, F11 GND, F17 GND, G8 GND, G10 GND, G12 GND, H3 GND, H7 GND, H9 GNDADC_0, H11 GND, H13 GND, J6 GND, J8 GND, J12 GND, J16 GND, K7 GND, K11 GND, L2 GND, L8 GND, L12 GND, M5 GND, M7 GND, M9 GND, M11 GND, M15 GND, N8 GND, N10 GND, N12 GND, N18 GND, P1 GND, R4 GND, R14 GND, T7 GND, T17 GND, U10 GND, V3 GND, V13 GND
part A text: BANK 14
part B text: BANK 15
part C text: BANK 16
part D text: BANK 34
part E text: BANK 35

## IC HCPL-817-50AE MS
designator U?, comment HCPL-817-50AE
Optocoupler 5KV Transistor 4-SMD; Manufacturer: Broadcom Limited; Isolation Voltage: 5000 Vrms; Forward Voltage: 1.2V; Max Forward Current: 50mA; Max Output Voltage: 70V; DB Parameter 3: 4us; Production status: Active; Distributor: Digi-Key; Distributor Part Number: 516-2226-1-ND; Manufacturer Part Number: HCPL-817-50AE; Last Revision Date: 26.07.2021; Temperature Range: -30°C ~ +100°C; Mounting: SMD; ComponentLink1Description: Datasheet; ComponentLink1URL: https://docs.broadcom.com/doc/HCPL-817-Phototransistor-Optocoupler-High-Density-Mounting-Type-DS; ComponentLink2Description: Distributor; ComponentLink2URL: https://www.digikey.com/en/products/detail/broadcom-limited/HCPL-817-50AE/2403192; ComponentLink3Description: Manufacturer; ComponentLink3URL: https://docs.broadcom.com/doc/HCPL-817-Phototransistor-Optocoupler-High-Density-Mounting-Type-DS; Status: Not Checked; DB Parameter 1: 1.2V; DB Parameter 2: 5000 Vrms; Rise/Fall time: 4us
footprint LTV814S
pins: 1 Anode, 2 Cathode, 3 Emitter, 4 Collector

## IC INA226AIDGST MS
designator U?, comment INA226AIDGST
IC MONITOR PWR/CURR BIDIR 10MSOP; Manufacturer: Texas Instruments; Power Supply: 0V ~ 36V; Production Status: Active; Distributor: Digi-Key; Distributor Part Number: 296-29100-1-ND; Last Revision Date: 17.03.2021; Temperature Range: -40°C ~ +125°C; Mounting: SMD; ComponentLink1Description: Datasheet; ComponentLink1URL: https://www.ti.com/general/docs/suppproductinfo.tsp?distId=10&gotoUrl=http%3A%2F%2Fwww.ti.com%2Flit%2Fgpn%2Fina226; ComponentLink2Description: Distributor; ComponentLink2URL: https://www.digikey.com/en/products/detail/texas-instruments/INA226AIDGST/2688425?s=N4IgTCBcDaIJIDkCCYwDYlwCIHEDKAKiALoC%2BQA; ComponentLink3Description: Manufacturer; ComponentLink3URL: https://www.ti.com/product/INA226?keyMatch=INA226&tisearch=search-everything&usecase=GPN; Status: Not Checked; DB Parameter 1: INA226AIDGST
footprint SOP50P490X110-10N MS
pins: 1 A1, 2 A0, 3 ALERT, 4 SDA, 5 SCL, 6 VS, 7 GND, 8 VBUS, 9 IN-, 10 IN+

## IC INA226AQDGSRQ1 MS
designator U?, comment INA226AQDGSRQ1
IC MONITOR PWR/CURR BIDIR 10MSOP; Manufacturer: Texas Instruments; Power Supply: 2.7V ~ 5.5V; DB Parameter 1: 0V ~ 36V; Production Status: Active; Distributor: Digi-Key; Distributor Part Number: 296-42503-1-ND; Last Revision Date: 18.06.2021; Temperature Range: -40°C ~ +125°C; Mounting: SMD; ComponentLink1Description: Datasheet; ComponentLink1URL: https://www.ti.com/lit/ds/symlink/ina226-q1.pdf?HQS=dis-dk-null-digikeymode-dsf-pf-null-wwe&ts=1624001180401&ref_url=https%253A%252F%252Fwww.digikey.cz%252F; ComponentLink2Description: Distributor; ComponentLink2URL: https://www.digikey.com/en/products/detail/texas-instruments/INA226AQDGSRQ1/5404241; ComponentLink3Description: Manufacturer; ComponentLink3URL: https://www.ti.com/store/ti/en/p/product/?p=INA226AQDGSRQ1&keyMatch=INA226AQDGSRQ1&tisearch=search-everything&usecase=OPN; Status: Not Checked; Sense Voltage: 0V ~ 36V
footprint SOP50P490X110-10N MS
pins: 1 A1, 2 A0, 3 ALERT, 4 SDA, 5 SCL, 6 VS, 7 GND, 8 VBUS, 9 IN-, 10 IN+

## IC INA231BIYFDT MS
designator U?, comment INA231BIYFDT
IC MONITOR PWR/CURR BIDIR 10MSOP; Manufacturer: Texas Instruments; Power Supply: 2.7V ~ 5.5V; DB Parameter 1: 0V ~ 36V; Production Status: Active; Sense Voltage: 0V ~ 25V; Distributor: Mouser; Distributor Part Number: 595-INA231BIYFDT; Last Revision Date: 26.07.2021; Temperature Range: -40°C ~ +125°C; Mounting: SMD; ComponentLink1Description: Datasheet; ComponentLink1URL: https://www.ti.com/lit/ds/symlink/ina231.pdf?HQS=dis-mous-null-mousermode-dsf-pf-null-wwe&DCM=yes&ref_url=https%3A%2F%2Feu.mouser.com%2F&distId=26; ComponentLink2Description: Distributor; ComponentLink2URL: https://eu.mouser.com/ProductDetail/Texas-Instruments/INA231BIYFDT?qs=%2Fha2pyFadui7MHIC05DHFvKEuHw3A34T1OGTYifc7galKUOlGM%2FqWQ%3D%3D; ComponentLink3Description: Manufacturer; ComponentLink3URL: https://www.ti.com/product/INA231?keyMatch=INA231BIYFDT&tisearch=search-everything; Status: Not Checked; Manufacturer Part Number: INA231BIYFDT
footprint DSBGA-12
pins: A1 SCL, A2 SDA, A3 ALERT (oc), B1 VS (power), B3 A0, C1 GND (power), C3 A1, D1 VBUS, D2 IN- (in), D3 IN+ (in)

## IC IPS161HFTR MS
designator U?, comment IPS161HFTR
SINGLE CHANNEL HIGH-SIDE SWITCHE; Manufacturer: STMicroelectronics; Voltage - Load: 8-60V; Current - Max: 0.6A; Production Status: Active; Distributor: Digi-Key; Distributor Part Number: 497-IPS161HFCT-ND; Last Revision Date: 29.06.2021; Temperature Range: -40°C ~ +150°C; Mounting: SMD; ComponentLink1Description: Datasheet; ComponentLink1URL: https://www.st.com/resource/en/datasheet/ips160hf.pdf; ComponentLink2Description: Distributor; ComponentLink2URL: https://www.digikey.com/en/products/detail/stmicroelectronics/IPS161HFTR/12724989; ComponentLink3Description: Manufacturer; ComponentLink3URL: https://www.st.com/content/st_com/en/products/power-management/intelligent-power-switches/high-side-switches/ips161hf.html; Status: Not Checked; DB Parameter 1: IPS161HFTR; DB Parameter 2: 8-60V; DB Parameter 3: 0.6A; Manufacturer Part Number: IPS161HFTR
footprint SOP80P600X170-13N
pins: 1 VCC_1 (power), 2 IN (in), 3 DIAG (oe), 4 COD, 5 NC_1, 6 NC_2, 7 GND (power), 8 OUT_1, 9 OUT_2, 10 OUT_3, 11 OUT_4, 12 VCC_2 (power), 13 VCC_3 (power)

## IC LM2673SD-ADJ/NOPB MS
designator U?, comment LM2673SD-ADJ/NOPB
DCDC, 8V TO 40V INPUT, 3A OUTPUT ADJ; Manufacturer: Texas Instruments; Power Supply: 8V~40V; Production Status: Active; Vref: 1.21V; Distributor: Digi-Key; Distributor Part Number: LM2673SD-ADJ/NOPBCT-ND; Last Revision Date: 23.08.2021; Temperature Range: -40°C ~ +125°C; Mounting: SMD; ComponentLink1Description: Datasheet; ComponentLink1URL: https://www.ti.com/lit/ds/symlink/lm2673.pdf?HQS=dis-dk-null-digikeymode-dsf-pf-null-wwe&ts=1629733322763; ComponentLink2Description: Distributor; ComponentLink2URL: https://www.digikey.com/en/products/detail/texas-instruments/LM2673SD-ADJ-NOPB/723184; ComponentLink3Description: Manufacturer; ComponentLink3URL: https://www.ti.com/store/ti/en/p/product/?p=LM2673SD-ADJ/NOPB; Status: Not Checked; DB Parameter 1: 8V~40V; DB Parameter 2: 3A; DB Parameter 3: ADJ; Rated Current: 3A; Manufacturer Part Number: LM2673SD-ADJ/NOPB
footprint SON80P500X600X100-15N MS
pins: 1 NC, 2 VIN (power), 3 VIN (power), 4 CB, 5 NC, 6 C_ADJ (in), 7 FB (in), 8 SS (in), 9 GND (power), 10 NC, 11 NC, 12 SW, 13 SW, 14 SW, 15 EP (power)

## IC LMR12020XSD/NOPB MS
designator U?, comment LMR12020XSD/NOPB
DCDC, 3V TO 20V INPUT, 2A OUTPUT ADJ; Manufacturer: Texas Instruments; Power Supply: 3V~20V; Production Status: Active; Vref: 1.0V; Distributor: Digi-Key; Distributor Part Number: LMR12020XSD/NOPBCT-ND; Last Revision Date: 24.08.2021; Temperature Range: -40°C ~ +125°C; Mounting: SMD; ComponentLink1Description: Datasheet; ComponentLink1URL: https://www.ti.com/lit/ds/symlink/lmr12020.pdf?HQS=dis-dk-null-digikeymode-dsf-pf-null-wwe&ts=1629720639287&ref_url=https%253A%252F%252Fwww.digikey.ch%252F; ComponentLink2Description: Distributor; ComponentLink2URL: https://www.digikey.com/en/products/detail/texas-instruments/LMR12020XSD-NOPB/3693586; ComponentLink3Description: Manufacturer; ComponentLink3URL: https://www.ti.com/store/ti/en/p/product/?p=LMR12020XSD/NOPB&keyMatch=LMR12020XSD/NOPB; Status: Not Checked; DB Parameter 1: 3V~20V; DB Parameter 2: 2A; DB Parameter 3: ADJ; Rated Current: 2A; Manufacturer Part Number: LMR12020XSD/NOPB
footprint SON50P300X300X80-11N-D MS
pins: 1 SW_1, 2 SW_2, 3 BOOST, 4 EN, 5 SYNC, 6 FB, 7 GND, 8 AVIN, 9 PVIN_1, 10 PVIN_2, 11 DAP

## IC LMR14020QDPRTQ1 MS
designator U?, comment LMR14020QDPRTQ1
BUCK 4V TO 40V, 2A; Manufacturer: Texas Instruments; Input Voltage: 4V ~ 40V; Output Voltage: ADJ; VFB: 0.8V; Production Status: Active; Distributor: Digi-Key; Distributor Part Number: 296-44760-1-ND; Last Revision Date: 11.05.2021; Temperature Range: -40°C ~ +125°C; Mounting: SMD; ComponentLink1Description: Datasheet; ComponentLink1URL: https://www.ti.com/lit/ds/symlink/lmr14020-q1.pdf?HQS=dis-dk-null-digikeymode-dsf-pf-null-wwe&ts=1636126529029&ref_url=https%253A%252F%252Fwww.ti.com%252Fgeneral%252Fdocs%252Fsuppproductinfo.tsp%253FdistId%253D10%2526gotoUrl%253Dhttps%253A%252F%252Fwww.ti.com%252Flit%252Fgpn%252Flmr14020-q1; ComponentLink2Description: Distributor; ComponentLink2URL: https://www.digikey.com/en/products/detail/texas-instruments/LMR14020QDPRTQ1/6193737?s=N4IgTCBcDaIDIFkBKBGALABjBgigEQAUkAVHFEAXQF8g; ComponentLink3Description: Manufacturer; ComponentLink3URL: https://www.ti.com/store/ti/en/p/product/?p=LMR14020QDPRTQ1&keyMatch=LMR14020QDPRTQ1; Status: Not Checked; DB Parameter 1: ADJ; DB Parameter 2: 2A; Output Current: 2A; Isolation: N/A; Manufacturer Part Number: LMR14020QDPRTQ1
footprint SON80P400X400X80-11N MS
pins: 1 BOOT, 2 VIN (power), 3 VIN (power), 4 EN, 5 RT/SYNC (in), 6 SS (power), 7 FB, 8 PGOOD (out), 9 GND (power), 10 SW (power), 11 TP (power)

## IC LMT87DCKR MS
designator U?, comment LMT87DCKR
SENSOR ANALOG -50C-150C SC70-5; Manufacturer: Texas Instruments; Power Supply: 2.7V ~ 5.5V; Production Status: Active; Distributor: Mouser; Distributor Part Number: 595-LMT87DCKR; Last Revision Date: 13.12.2021; Temperature Range: -50°C ~ +150°C; Mounting: SMD; ComponentLink1Description: Datasheet; ComponentLink1URL: https://www.ti.com/lit/ds/symlink/lmt87.pdf?ts=1639410757849&ref_url=https%253A%252F%252Fwww.ti.com%252Fstore%252Fti%252Fen%252Fp%252Fproduct%252F%253Fp%253DLMT87DCKR; ComponentLink2Description: Distributor; ComponentLink2URL: https://eu.mouser.com/ProductDetail/Texas-Instruments/LMT87DCKR?qs=TB%2FQ0sBK%2FGewwiyaPQc1Yw%3D%3D; ComponentLink3Description: Manufacturer; ComponentLink3URL: https://www.ti.com/store/ti/en/p/product/?p=LMT87DCKR; Status: Not Checked; DB Parameter 1: LMT87DCKR
footprint DCK5 MS
pins: 1 VDD (power), 2 GND (power), 3 OUT (out), 4 VDD (power), 5 VDD (power)

## IC LTV817S
designator U?, comment LTV817S
Optocoupler 5KV Transistor 4-SMD; Manufacturer: Lite-On Inc.; Manufacturer Part Number: LTV-817S; Isolation Voltage: 5000 Vrms; Forward Voltage: 1.2V; Max Forward Current: 50mA; Max Output Voltage: 35V; DB Parameter 3: 4us; Production status: Active; Distributor: Digi-Key; Distributor Part Number: 160-1367-5-ND; Last Revision Date: 17.03.2021; Temperature Range: -30°C ~ +110°C; Mounting: SMD; ComponentLink1Description: Datasheet; ComponentLink1URL: https://optoelectronics.liteon.com/upload/download/DS-70-96-0016/LTV-8X7%20series%20201610%20.pdf; ComponentLink2Description: Distributor; ComponentLink2URL: https://www.digikey.com/en/products/detail/lite-on-inc/LTV-817S/385837; ComponentLink3Description: Manufacturer; ComponentLink3URL: https://optoelectronics.liteon.com/upload/download/DS-70-96-0016/LTV-8X7%20series%20201610%20.pdf; Status: Not Checked; DB Parameter 1: 1.2V; DB Parameter 2: 5000 Vrms; Rise/Fall time: 4us
footprint LTV814S
pins: 1 Anode, 2 Cathode, 3 Emitter, 4 Collector

## IC MAX14933ASE+ MS
designator U?, comment MAX14933ASE+
I²C Digital Isolator 2750Vrms 2 Channel - 25kV/µs (Typ) CMTI 16-SOIC (0.154", 3.90mm Width); Manufacturer: Maxim Integrated; Coupling: Capacitive; DB Parameter 1: I2C; DB Parameter 3: 80ns/75ns; Production status: Active; Distributor: Digi-Key; Distributor Part Number: MAX14933ASE+-ND; Manufacturer Part Number: MAX14933ASE+; Last Revision Date: 22.06.2021; Temperature Range: -40°C ~ +125°C; Mounting: SMD; ComponentLink1Description: Datasheet; ComponentLink1URL: https://datasheets.maximintegrated.com/en/ds/MAX14933.pdf; ComponentLink2Description: Distributor; ComponentLink2URL: https://www.digikey.com/en/products/detail/maxim-integrated/MAX14933ASE/5396528; ComponentLink3Description: Manufacturer; ComponentLink3URL: https://www.maximintegrated.com/en/products/interface/isolation/MAX14933.html; Status: Not Checked; Isolation Voltage: 2750 Vrms; Type: I2C; DB Parameter 2: 2750 Vrms; Rise/Fall time: 80ns/75ns
footprint SOIC127P600X175-16N MS
pins: 1 GNDA, 2 I.C., 3 VDDA, 4 N.C., 5 I/OA1, 6 I/OA2, 7 GNDA, 8 I.C., 9 GNDB, 10 I.C., 11 I/OB2, 12 I/OB1, 13 N.C., 14 VDDB, 15 I.C., 16 GNDB

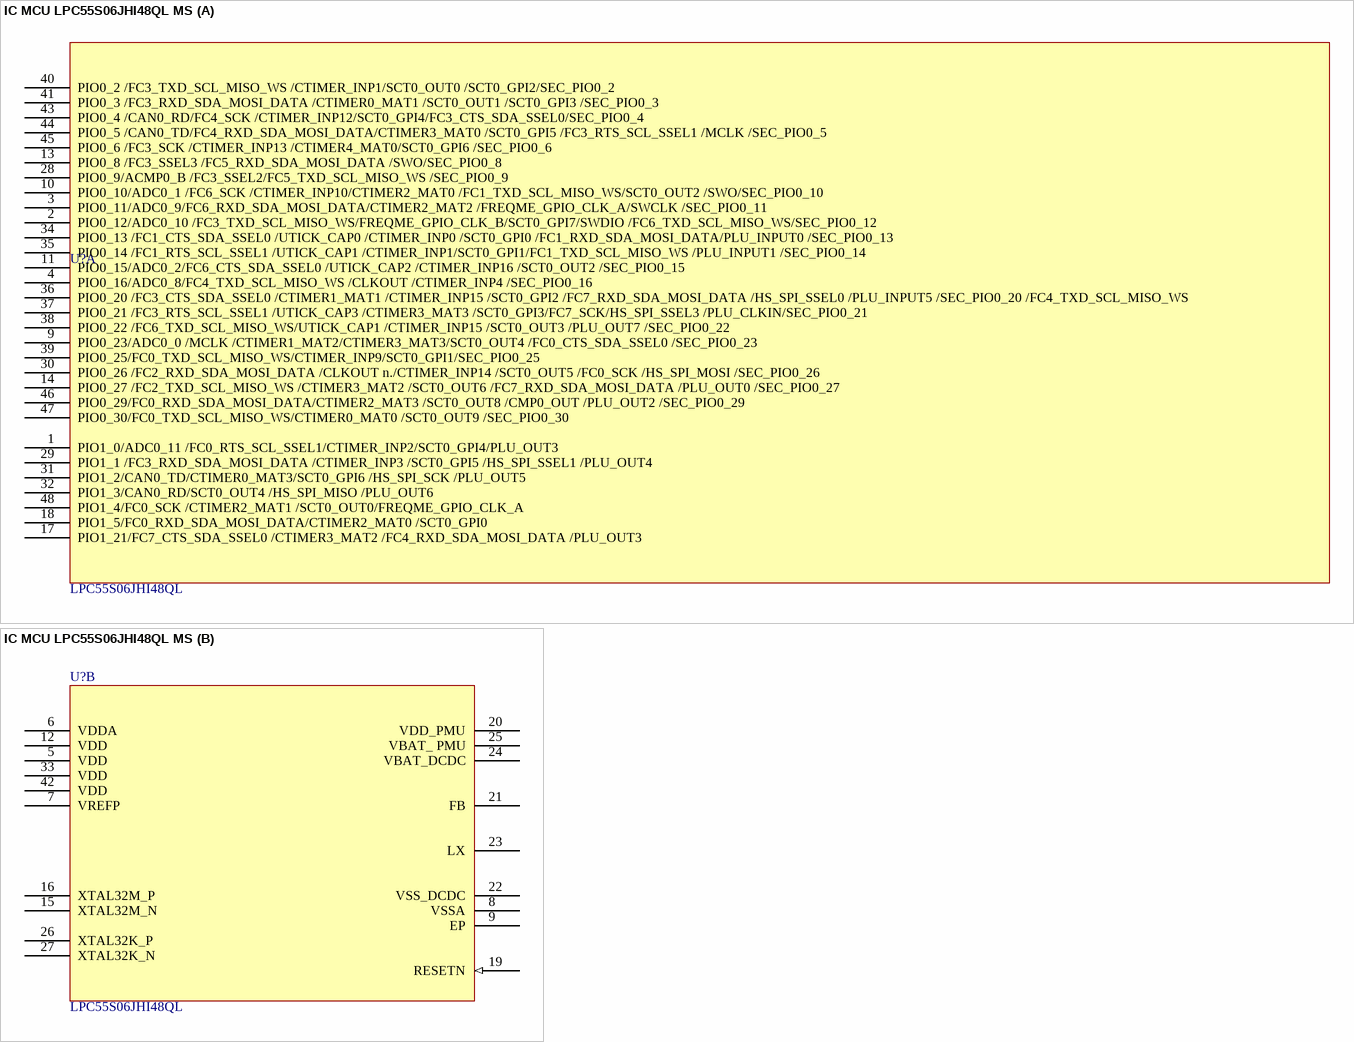
[diagram p11: symbol IC MCU LPC55S06JHI48QL MS]